# Altium schematic symbol library SCH - POWER - LINEAR VREG - TI LP2989DGK.SchLib: 1 symbol
Pins are listed as number, name and electrical type; pins without a type are passive.

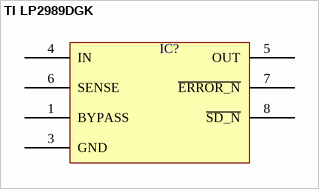
[diagram p0: symbol TI LP2989DGK]

## TI LP2989DGK
designator IC?  (value not drawn)
pins: 1 BYPASS, 3 GND, 4 IN, 5 OUT, 6 SENSE, 7 ~{ERROR_N}, 8 ~{SD_N}